# Altium footprint library johanson-technology.PCBLIB: 1 footprints
Each footprint in its own frame and in the unit in brackets; x right, y up, seen from the top. Pads: shape width x height; smd on the part's side, far side on the other; paste and mask are expansions set on the pad; w line width, h text height; cw(c..) or ccw(c..) is an arc to the next point about the centre after c.
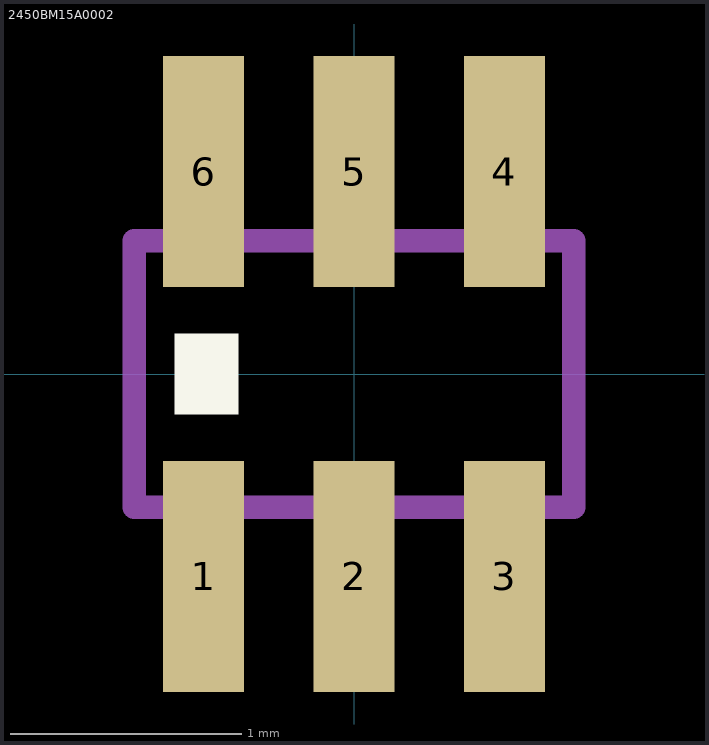
[diagram p0: the footprint, top view; thin cyan lines are the x and y axes]

## 2450BM15A0002 [mm]
pads (6):
  rect 0.35x1 smd: 1(-0.65,-0.875) 2(0,-0.875) 3(0.65,-0.875) 4(0.65,0.875) 5(0,0.875) 6(-0.65,0.875)
Top Overlay:
  rectangle: -0.775,-0.175 -0.5,0.175
Mechanical 16:
  lines w0.102: -0.95,-0.575 0.95,-0.575 0.95,0.575 -0.95,0.575 -0.95,-0.575